# Altium footprint library IPD50P04P4L-11.PcbLib: 2 footprints
Each footprint in its own frame and in the unit in brackets; x right, y up, seen from the top. Pads: shape width x height; smd on the part's side, far side on the other; paste and mask are expansions set on the pad; w line width, h text height; cw(c..) or ccw(c..) is an arc to the next point about the centre after c.
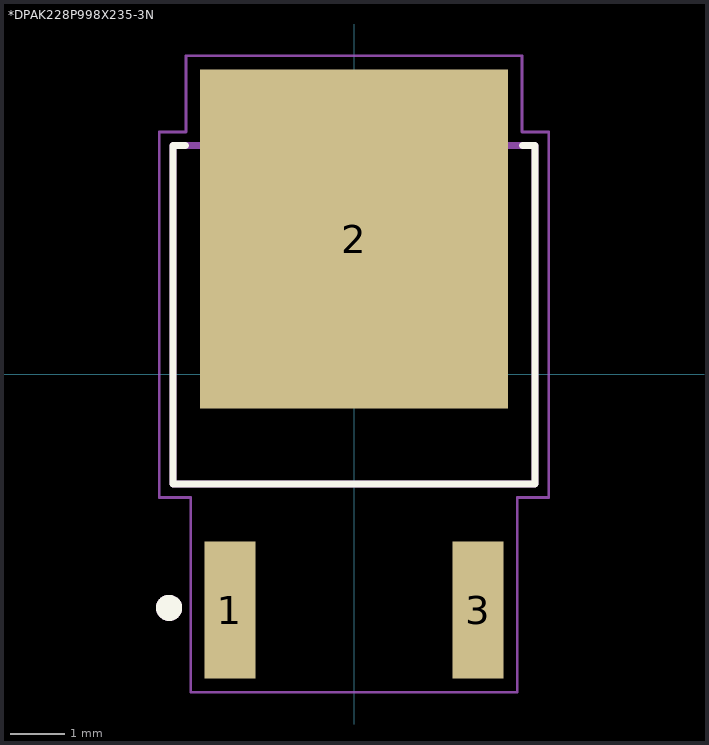
[diagram p0: the footprints below, top view; thin cyan lines are the x and y axes]

## *DPAK228P998X235-3N [mm]
pads (3):
  rect 0.94x2.52 smd: 1(-2.28,-4.34) 3(2.28,-4.34)
  rect 5.67x6.23 smd: 2(0,2.48)
Top Overlay:
  circle w0.24: c-3.4,-4.3 r0.12
  lines w0.127: -3.1,4.2 -3.33,4.2 -3.33,-2.02 3.33,-2.02 3.33,4.2 3.1,4.2
Top Paste:
  region: -2.545,1.15 -1.235,1.15 -1.235,-0.35 -2.545,-0.35
  region: 1.235,1.15 2.545,1.15 2.545,-0.35 1.235,-0.35
  region: -2.545,3.23 -1.235,3.23 -1.235,1.73 -2.545,1.73
  region: 1.235,3.23 2.545,3.23 2.545,1.73 1.235,1.73
  region: 1.235,5.31 2.545,5.31 2.545,3.81 1.235,3.81
  region: -2.545,5.31 -1.235,5.31 -1.235,3.81 -2.545,3.81
  region: -0.655,1.15 0.655,1.15 0.655,-0.35 -0.655,-0.35
  region: -0.655,5.31 0.655,5.31 0.655,3.81 -0.655,3.81
  region: -0.655,3.23 0.655,3.23 0.655,1.73 -0.655,1.73
Mechanical 4:
  circle w0.24: c-3.4,-4.3 r0.12
  circle w0.24: c-3.4,-4.3 r0.12
  lines w0.127: -3.33,-2.02 -3.33,4.2 ; -3.33,-2.02 3.33,-2.02 ; -3.33,-2.02 -3.33,4.2 ; -3.33,-2.02 3.33,-2.02 ; -3.33,4.2 3.33,4.2 ; -3.33,4.2 3.33,4.2 ; 3.33,-2.02 3.33,4.2 ; 3.33,-2.02 3.33,4.2
Mechanical 16:
  lines w0.05: -3.58,-2.27 -3.58,4.45 -3.09,4.45 -3.09,5.85 3.09,5.85 3.09,4.45 3.58,4.45 3.58,-2.27 3,-2.27 3,-5.85 -3,-5.85 -3,-2.27 -3.58,-2.27

## PCBComponent_1 [mm]